# EAGLE library part MC10ELT25DTG (library On Semiconductor)
ECL to TTL Translator
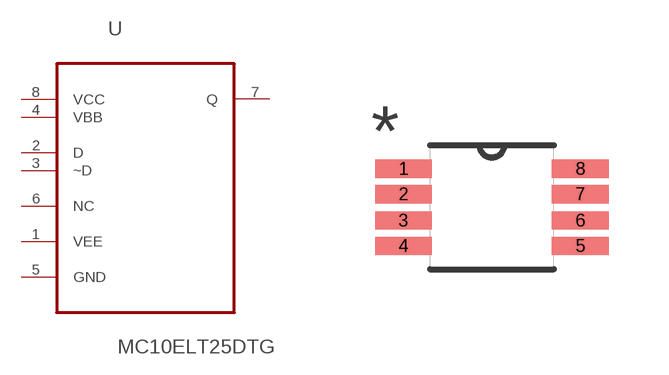
[diagram p170: symbol with the pads of SOP65P490X110-8N; footprint SOP65P490X110-8N]

Designator prefix U

## MC10ELT25DTG (MPN: MC10ELT25DTG; OC_FARNELL: 1147688; OC_NEWARK: 42K0043; PACKAGE: TSSOP-8; SUPPLIER: On Semiconductor)  [SOP65P490X110-8N]
1  VEE  pwr
2  D  in
3  ~D  in
4  VBB  pwr
5  GND  pas
6  NC  nc
7  Q  out
8  VCC  pwr

## Footprint SOP65P490X110-8N (pad centres in mm)
smd 1.422 x 0.457: 1 -2.21,0.965; 2 -2.21,0.33; 3 -2.21,-0.33; 4 -2.21,-0.965; 5 2.21,-0.965; 6 2.21,-0.33; 7 2.21,0.33; 8 2.21,0.965